# Altium schematic symbol library MKE02ZxxVLC2(R).SchLib: 1 symbol
Pins are listed as number, name and electrical type; pins without a type are passive.

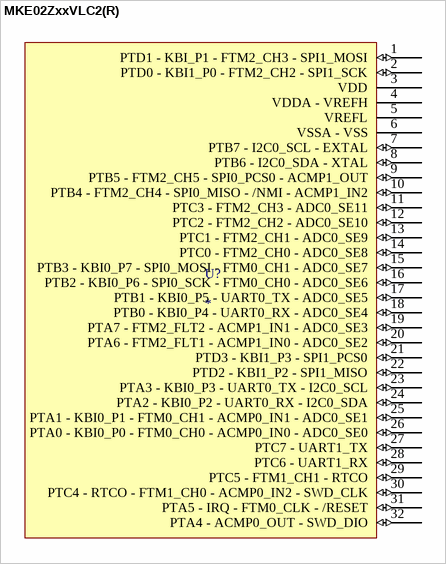
[diagram p0: symbol MKE02ZxxVLC2(R)]

## MKE02ZxxVLC2(R)
designator U?
pins: 1 PTD1 - KBI_P1 - FTM2_CH3 - SPI1_MOSI (io), 2 PTD0 - KBI1_P0 - FTM2_CH2 - SPI1_SCK (io), 3 VDD, 4 VDDA - VREFH, 5 VREFL, 6 VSSA - VSS, 7 PTB7 - I2C0_SCL - EXTAL (io), 8 PTB6 - I2C0_SDA - XTAL (io), 9 PTB5 - FTM2_CH5 - SPI0_PCS0 - ACMP1_OUT (io), 10 PTB4 - FTM2_CH4 - SPI0_MISO - /NMI - ACMP1_IN2 (io), 11 PTC3 - FTM2_CH3 - ADC0_SE11 (io), 12 PTC2 - FTM2_CH2 - ADC0_SE10 (io), 13 PTC1 - FTM2_CH1 - ADC0_SE9 (io), 14 PTC0 - FTM2_CH0 - ADC0_SE8 (io), 15 PTB3 - KBI0_P7 - SPI0_MOSI - FTM0_CH1 - ADC0_SE7 (io), 16 PTB2 - KBI0_P6 - SPI0_SCK - FTM0_CH0 - ADC0_SE6 (io), 17 PTB1 - KBI0_P5 - UART0_TX - ADC0_SE5 (io), 18 PTB0 - KBI0_P4 - UART0_RX - ADC0_SE4 (io), 19 PTA7 - FTM2_FLT2 - ACMP1_IN1 - ADC0_SE3 (io), 20 PTA6 - FTM2_FLT1 - ACMP1_IN0 - ADC0_SE2 (io), 21 PTD3 - KBI1_P3 - SPI1_PCS0 (io), 22 PTD2 - KBI1_P2 - SPI1_MISO (io), 23 PTA3 - KBI0_P3 - UART0_TX - I2C0_SCL (io), 24 PTA2 - KBI0_P2 - UART0_RX - I2C0_SDA (io), 25 PTA1 - KBI0_P1 - FTM0_CH1 - ACMP0_IN1 - ADC0_SE1 (io), 26 PTA0 - KBI0_P0 - FTM0_CH0 - ACMP0_IN0 - ADC0_SE0 (io), 27 PTC7 - UART1_TX (io), 28 PTC6 - UART1_RX (io), 29 PTC5 - FTM1_CH1 - RTCO (io), 30 PTC4 - RTCO - FTM1_CH0 - ACMP0_IN2 - SWD_CLK (io), 31 PTA5 - IRQ - FTM0_CLK - /RESET (io), 32 PTA4 - ACMP0_OUT - SWD_DIO (io)